# EAGLE library part LTC4O88 (library xnemo)
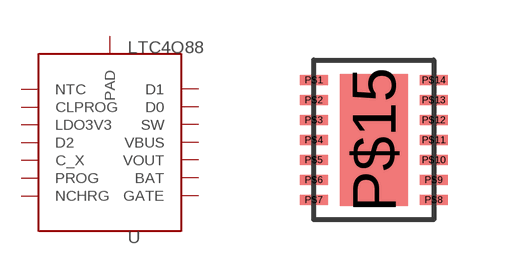
[diagram p2: symbol with the pads of LTC_DFN14_4X3; footprint LTC_DFN14_4X3]

Designator prefix U

## LTC4O88  [LTC_DFN14_4X3]
P$1  NTC
P$2  CLPROG
P$3  LDO3V3
P$4  D2
P$5  C_X
P$6  PROG
P$7  NCHRG
P$8  GATE
P$9  BAT
P$10  VOUT
P$11  VBUS
P$12  SW
P$13  D0
P$14  D1
P$15  PAD

## Footprint LTC_DFN14_4X3 (pad centres in mm)
smd 0.7 x 0.25: P$1 -1.5,1.5; P$2 -1.5,1; P$3 -1.5,0.5; P$4 -1.5,0; P$5 -1.5,-0.5; P$6 -1.5,-1; P$7 -1.5,-1.5; P$8 1.5,-1.5; P$9 1.5,-1; P$10 1.5,-0.5; P$11 1.5,0; P$12 1.5,0.5; P$13 1.5,1; P$14 1.5,1.5
smd 1.7 x 3.3: P$15 0,0